# EAGLE library part EFM32G/HG-QFP48 (library IoTMakers)
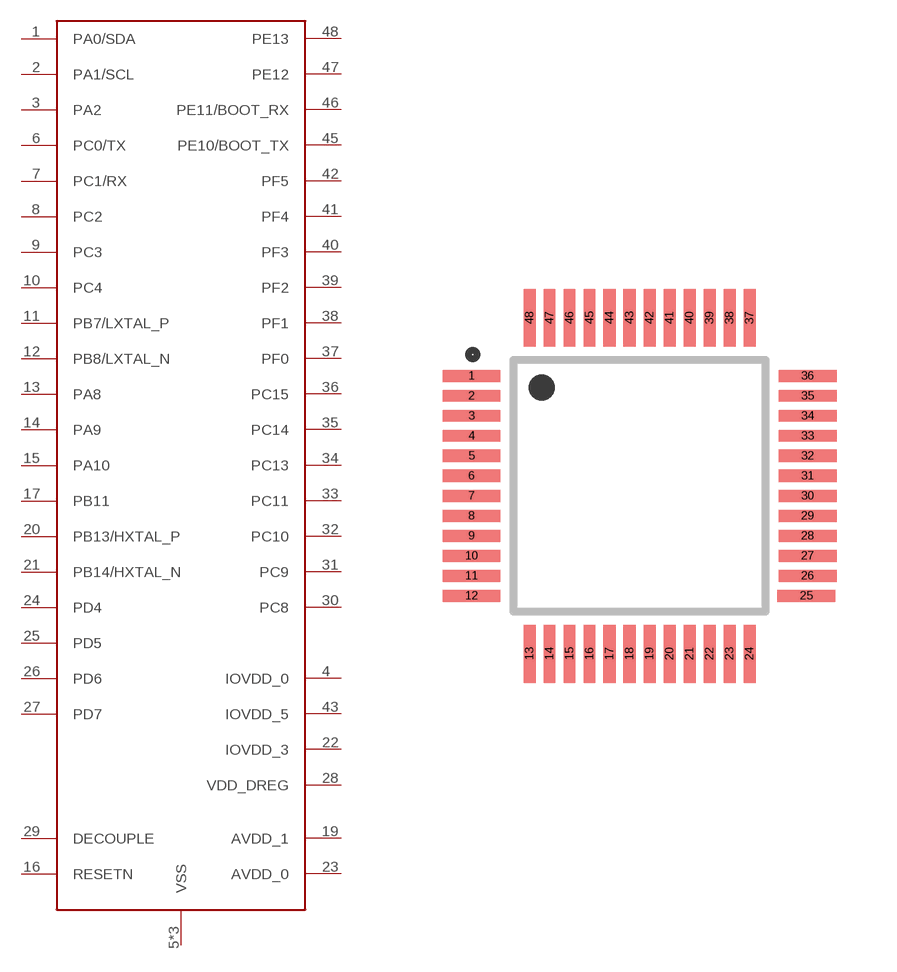
[diagram p16: symbol with the pads of QFP50P900X900X120-48N; footprint QFP50P900X900X120-48N]

Designator prefix -

## EFM32G/HG-QFP48  [QFP50P900X900X120-48N]
1  PA0/SDA
2  PA1/SCL
3  PA2
4  IOVDD_0
5  VSS
6  PC0/TX
7  PC1/RX
8  PC2
9  PC3
10  PC4
11  PB7/LXTAL_P
12  PB8/LXTAL_N
13  PA8
14  PA9
15  PA10
16  RESETN
17  PB11
18  VSS
19  AVDD_1
20  PB13/HXTAL_P
21  PB14/HXTAL_N
22  IOVDD_3
23  AVDD_0
24  PD4
25  PD5
26  PD6
27  PD7
28  VDD_DREG
29  DECOUPLE
30  PC8
31  PC9
32  PC10
33  PC11
34  PC13
35  PC14
36  PC15
37  PF0
38  PF1
39  PF2
40  PF3
41  PF4
42  PF5
43  IOVDD_5
44  VSS
45  PE10/BOOT_TX
46  PE11/BOOT_RX
47  PE12
48  PE13

## Footprint QFP50P900X900X120-48N (pad centres in mm)
smd 1.45 x 0.3: 1 -4.2,2.75; 2 -4.2,2.25; 3 -4.2,1.75; 4 -4.2,1.25; 5 -4.2,0.75; 6 -4.2,0.25; 7 -4.2,-0.25; 8 -4.2,-0.75; 9 -4.2,-1.25; 10 -4.2,-1.75; 11 -4.2,-2.25; 12 -4.2,-2.75; 25 4.17,-2.75; 26 4.2,-2.25; 27 4.2,-1.75; 28 4.2,-1.25; 29 4.2,-0.75; 30 4.2,-0.25; 31 4.2,0.25; 32 4.2,0.75; 33 4.2,1.25; 34 4.2,1.75; 35 4.2,2.25; 36 4.2,2.75
smd 0.3 x 1.45: 13 -2.75,-4.2; 14 -2.25,-4.2; 15 -1.75,-4.2; 16 -1.25,-4.2; 17 -0.75,-4.2; 18 -0.25,-4.2; 19 0.25,-4.2; 20 0.75,-4.2; 21 1.25,-4.2; 22 1.75,-4.2; 23 2.25,-4.2; 24 2.75,-4.2; 37 2.75,4.2; 38 2.25,4.2; 39 1.75,4.2; 40 1.25,4.2; 41 0.75,4.2; 42 0.25,4.2; 43 -0.25,4.2; 44 -0.75,4.2; 45 -1.25,4.2; 46 -1.75,4.2; 47 -2.25,4.2; 48 -2.75,4.2